# EAGLE library part 658410821040 (library WR-BTB)
WR-BTB Board to Board Characteristics Insulator flammability rating: UL94 V-0 Defined board to board distance from 5.00 mm up to 16.00 mm Available pin-counts: 64 pins (1.0 mm version) / 40, 80 or 100 pins (0.8 mm version) Contact plating: selective gold Operating temperature: -55 °C up to +85 °C Quality class: 30 mating cycles Contact resistance: 30 mΩ Working Voltage: 100 V (AC) UL approval: E323964 Applications Board-to-board connection for secure and fast data connections Defined PCB spacing In conjunction with SMT spacers or threaded spacers, a stable connection of stacked PCBs. <https://www.we-online.com/components/media/o790799v209%20WR-BTB_Gruppe.jpg> Details see: www.we-online.com/en/components/products/WR_BTB <www.we-online.com/catalog/WR_BTB/?utm_source=eagle_model&utm_medium=description_link&utm_campaign=eisos_eagle> Updated by Ella 2025-05-14 2025(C) Würth Elektronik
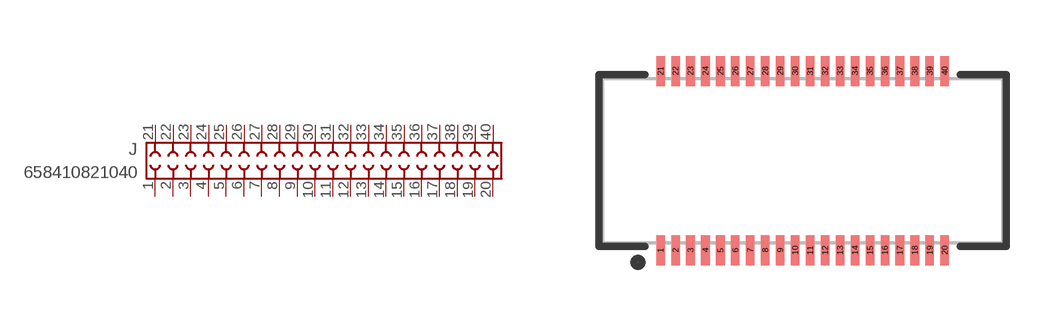
[diagram p12: symbol with the pads of 658410821040; footprint 658410821040]

Designator prefix J

## 658410821040 (DATASHEET-URL: https://www.we-online.com/redexpert/spec/658410821040?ae; GENDER: Receptacle; HEIGHT: 0.87mm; IR: 300mA; MOUNT: SMT; PACKAGING: Tape and Reel with Cap; PART-NUMBER: 658410821040; PINS: 40; PITCH: 0.4mm; TYPE: Vertical; VALUE: 658410821040)  [658410821040]
1  1  pas
2  2  pas
3  3  pas
4  4  pas
5  5  pas
6  6  pas
7  7  pas
8  8  pas
9  9  pas
10  10  pas
11  11  pas
12  12  pas
13  13  pas
14  14  pas
15  15  pas
16  16  pas
17  17  pas
18  18  pas
19  19  pas
20  20  pas
21  21  pas
22  22  pas
23  23  pas
24  24  pas
25  25  pas
26  26  pas
27  27  pas
28  28  pas
29  29  pas
30  30  pas
31  31  pas
32  32  pas
33  33  pas
34  34  pas
35  35  pas
36  36  pas
37  37  pas
38  38  pas
39  39  pas
40  40  pas

## Footprint 658410821040 (pad centres in mm)
WR-BTB Board to Board Pitch: 0.4mm, Receptacle, 40pins, SMT Height = 0.87mm
smd 0.23 x 0.8: 1 -3.8,-2.4; 2 -3.4,-2.4; 3 -3,-2.4; 4 -2.6,-2.4; 5 -2.2,-2.4; 6 -1.8,-2.4; 7 -1.4,-2.4; 8 -1,-2.4; 9 -0.6,-2.4; 10 -0.2,-2.4; 11 0.2,-2.4; 12 0.6,-2.4; 13 1,-2.4; 14 1.4,-2.4; 15 1.8,-2.4; 16 2.2,-2.4; 17 2.6,-2.4; 18 3,-2.4; 19 3.4,-2.4; 20 3.8,-2.4; 21 -3.8,2.4; 22 -3.4,2.4; 23 -3,2.4; 24 -2.6,2.4; 25 -2.2,2.4; 26 -1.8,2.4; 27 -1.4,2.4; 28 -1,2.4; 29 -0.6,2.4; 30 -0.2,2.4; 31 0.2,2.4; 32 0.6,2.4; 33 1,2.4; 34 1.4,2.4; 35 1.8,2.4; 36 2.2,2.4; 37 2.6,2.4; 38 3,2.4; 39 3.4,2.4; 40 3.8,2.4